# Altium schematic symbol library NCV8730ASN500T1G.SchLib: 2 symbols
Pins are listed as number, name and electrical type; pins without a type are passive.

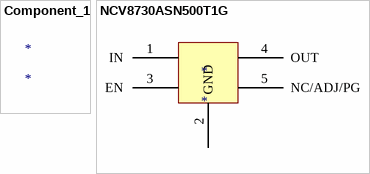
[diagram p0: symbols Component_1 to NCV8730ASN500T1G]

## Component_1
designator *

## NCV8730ASN500T1G
designator *
footprint SOP95P250X265-6N (SOP, 6-Leads, Body 3.00x1.50mm, Pitch 0.95mm, IPC Medium Density)
pins: 1 IN, 2 GND, 3 EN, 4 OUT, 5 NC/ADJ/PG